# Altium footprint library control.PcbLib: 8 footprints
Each footprint in its own frame and in the unit in brackets; x right, y up, seen from the top. Pads: shape width x height; smd on the part's side, far side on the other; paste and mask are expansions set on the pad; w line width, h text height; cw(c..) or ccw(c..) is an arc to the next point about the centre after c.
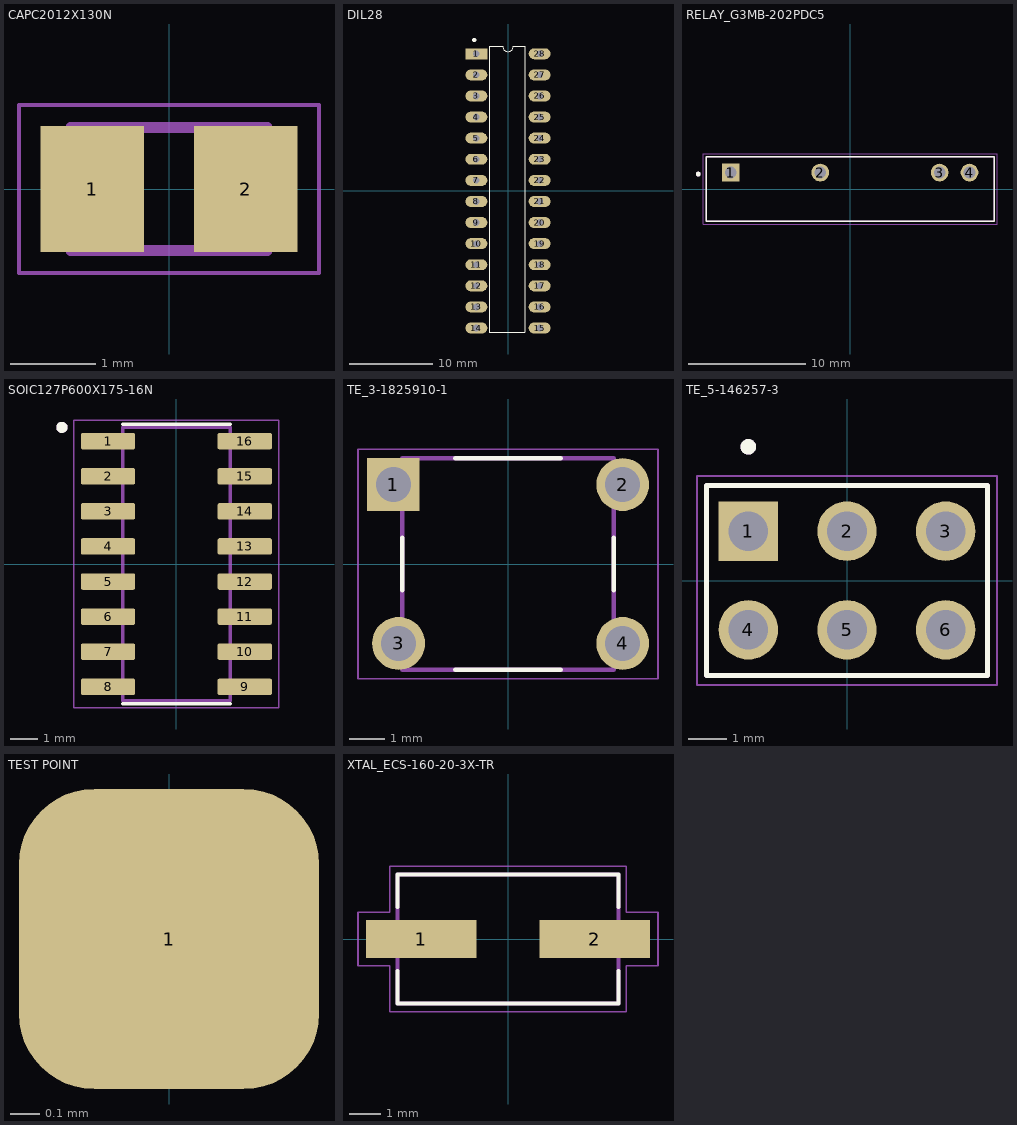
[diagram p0: the footprints below, top view; thin cyan lines are the x and y axes]

## CAPC2012X130N [mm]
pads (2):
  rect 1.21x1.47 smd: 1(-0.898,0) 2(0.898,0)
Mechanical 13:
  lines w0.127: -1.15,-0.72 -1.15,0.72 1.15,0.72 1.15,-0.72 -1.15,-0.72
Mechanical 15:
  lines w0.05: -1.755,-0.983 -1.755,0.983 1.755,0.983 1.755,-0.983 -1.755,-0.983
3D body "22pf.STEP": height 1.21, standoff -0.04, extent -1.016,-0.65 0.984,0.65

## DIL28 [mil]
pads (28):
  rect 104x52 hole 32: 1(-150,650)
  oval 104x52 hole 32: 2(-150,550) 3(-150,450) 4(-150,350) 5(-150,250) 6(-150,150) 7(-150,50) 8(-150,-50) 9(-150,-150) 10(-150,-250) 11(-150,-350) 12(-150,-450) 13(-150,-550) 14(-150,-650) 15(150,-650) 16(150,-550) 17(150,-450) 18(150,-350) 19(150,-250) 20(150,-150) 21(150,-50) 22(150,50) 23(150,150) 24(150,250) 25(150,350) 26(150,450) 27(150,550) 28(150,650)
Top Overlay:
  circle w10: c-160,715 r5
  lines w5: -90,-670 -90,685 -25,685 ccw(c0,685) 25,685 80,685 80,-670 -90,-670
3D body "User Library-DIP-28P-M04.STEP": height 204.72, standoff -118.11, extent -154.92,-698.7 154.92,695

## RELAY_G3MB-202PDC5 [mm]
pads (4):
  rect 1.508x1.508 hole 1: 1(-10.16,1.4)
  round 1.508 hole 1: 2(-2.54,1.4) 3(7.62,1.4) 4(10.16,1.4)
Top Overlay:
  circle w0.2: c-12.93,1.27 r0.1
  lines w0.127: -12.25,-2.75 12.25,-2.75 12.25,2.75 -12.25,2.75 -12.25,-2.75
Mechanical 13:
  circle w0.2: c-12.93,1.27 r0.1
  lines w0.127: -12.25,-2.75 12.25,-2.75 12.25,2.75 -12.25,2.75 -12.25,-2.75
Mechanical 15:
  lines w0.05: -12.5,-3 -12.5,3 12.5,3 12.5,-3 -12.5,-3
3D body "realy.STEP": height 20.5, standoff -3.9, extent -12.25,-2.753 12.25,2.747

## SOIC127P600X175-16N [mm]
pads (16):
  rrect25% 1.97x0.6 smd: 1(-2.475,4.445) 2(-2.475,3.175) 3(-2.475,1.905) 4(-2.475,0.635) 5(-2.475,-0.635) 6(-2.475,-1.905) 7(-2.475,-3.175) 8(-2.475,-4.445) 9(2.475,-4.445) 10(2.475,-3.175) 11(2.475,-1.905) 12(2.475,-0.635) 13(2.475,0.635) 14(2.475,1.905) 15(2.475,3.175) 16(2.475,4.445)
Top Overlay:
  circle w0.2: c-4.145,4.945 r0.1
  lines w0.127: -1.95,-5.065 1.95,-5.065 ; -1.95,5.065 1.95,5.065
Mechanical 13:
  circle w0.2: c-4.145,4.945 r0.1
  lines w0.127: -1.95,-4.95 -1.95,4.95 1.95,4.95 1.95,-4.95 -1.95,-4.95
Mechanical 15:
  lines w0.05: -3.71,-5.2 -3.71,5.2 3.71,5.2 3.71,-5.2 -3.71,-5.2
3D body "step_temp.STEP": height 1.75, standoff 0, extent -2.997,-4.953 2.997,4.953

## TE_3-1825910-1 [mm]
pads (4):
  rect 1.498x1.498 / inner round 1.498 / far side rect 1.498x1.498 hole 0.99: 1(-3.25,2.25)
  round 1.498 hole 0.99: 2(3.25,2.25) 3(-3.1,-2.25) 4(3.25,-2.25)
Top Overlay:
  lines w0.127: -3,-0.75 -3,0.75 ; -1.5,-3 1.5,-3 ; -1.5,3 1.5,3 ; 3,-0.75 3,0.75
Mechanical 13:
  lines w0.127: -3,-3 3,-3 3,3 -3,3 -3,-3
Mechanical 15:
  lines w0.05: -4.25,-3.25 -4.25,3.25 4.25,3.25 4.25,-3.25 -4.25,-3.25
3D body "step_temp.STEP": height 17.01, standoff -3.51, extent -3.898,-2.995 3.9,2.995

## TE_5-146257-3 [mm]
pads (6):
  rect 1.53x1.53 / inner round 1.53 / far side rect 1.53x1.53 hole 1.02: 1(-2.54,1.27)
  round 1.53 hole 1.02: 2(0,1.27) 3(2.54,1.27) 4(-2.54,-1.27) 5(0,-1.27) 6(2.54,-1.27)
Top Overlay:
  circle w0.2: c-2.54,3.44 r0.1
  lines w0.127: -3.61,-2.44 3.61,-2.44 3.61,2.44 -3.61,2.44 -3.61,-2.44
Mechanical 13:
  circle w0.2: c-2.54,3.44 r0.1
  lines w0.127: -3.61,-2.44 3.61,-2.44 3.61,2.44 -3.61,2.44 -3.61,-2.44
Mechanical 15:
  lines w0.05: -3.86,-2.69 3.86,-2.69 3.86,2.69 -3.86,2.69 -3.86,-2.69
3D body "step_temp.STEP": height 7.77, standoff -3.4, extent -3.607,-2.438 3.607,2.438

## TEST POINT [mil]
pads (1):
  rrect50% 40x40 smd: 1(0,40)

## XTAL_ECS-160-20-3X-TR [mm]
pads (2):
  rect 3.5x1.2 smd: 1(-2.75,0) 2(2.75,0)
Top Overlay:
  lines w0.127: -3.5,-1.01 -3.5,-2.05 3.5,-2.05 3.5,-1.01 ; -3.5,1.01 -3.5,2.05 3.5,2.05 3.5,1.01
Mechanical 13:
  lines w0.127: -3.5,-2.05 3.5,-2.05 3.5,2.05 -3.5,2.05 -3.5,-2.05
Mechanical 15:
  lines w0.05: -4.75,-0.85 -3.75,-0.85 -3.75,-2.3 3.75,-2.3 3.75,-0.85 4.75,-0.85 4.75,0.85 3.75,0.85 3.75,2.3 -3.75,2.3 -3.75,0.85 -4.75,0.85 -4.75,-0.85
3D body "cystals.STEP": height 2.3, standoff 0, extent -3.8,-2.177 3.8,1.923